# Altium footprint library S2B-ZR.PcbLib: 1 footprints
Each footprint in its own frame and in the unit in brackets; x right, y up, seen from the top. Pads: shape width x height; smd on the part's side, far side on the other; paste and mask are expansions set on the pad; w line width, h text height; cw(c..) or ccw(c..) is an arc to the next point about the centre after c.
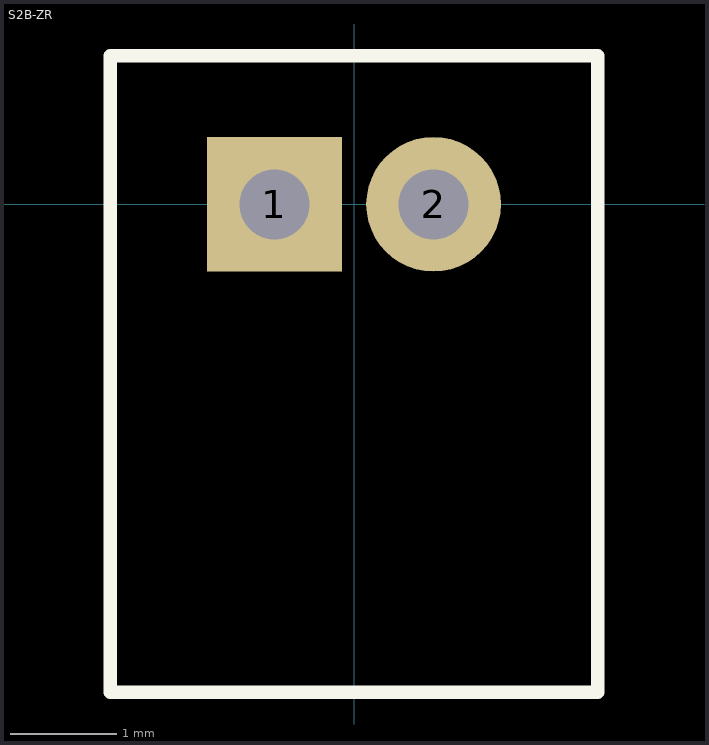
[diagram p0: the footprint, top view; thin cyan lines are the x and y axes]

## S2B-ZR [mil] "ZH Connector 1.5mm pitch, side entry"
height 94.49
pads (2):
  rect 50x50 hole 26: 1(-29.53,0)
  round 50 hole 26: 2(29.53,0)
Top Overlay:
  lines w5: -90.55,-181.1 -90.55,55.12 90.55,55.12 90.55,-181.1 -90.55,-181.1
3D body: height 94.49, standoff 0, extent -93.05,-183.6 93.05,57.62